# EAGLE library part 691327310008 (library Eagle_WR-TBL Pluggable Connector (rev21a))
WR-TBL Serie 3251 - 3.50 mm Horizontal PCB Header with Flanges KIND PROPERTIES Pitch 3.81 mm MATERIAL PROPERTIES Insulator Material PA66 Insulator Flammability Rating UL94 V-0 Contact Material Brass Contact Plating Tin GENERAL INFORMATION Operating Temperature -40 up to +105 °C Compliance RoHS ELECTRICAL PROPERTIES IR UL 10 A Working Voltage [UL] 300 V (AC) Withstanding Voltage [cULus] 1600 V (AC) Contact Resistance [cULus] 20 mΩ CERTIFICATION cULus Approval E315414 <https://www.we-online.com/catalog/media/o33343v209%20Family_WR-TL_6913273100xx.jpg> Details see: https://www.we-online.com/catalog/en/TBL_3_81_3273_DOUBLE_LEVEL_HORIZONTAL_MALE_PCB_HEADER_W_FLANGES_6913273100XX/ Updated by Ella Wu 2019-12-23 2019(C) Wurth Elektronik
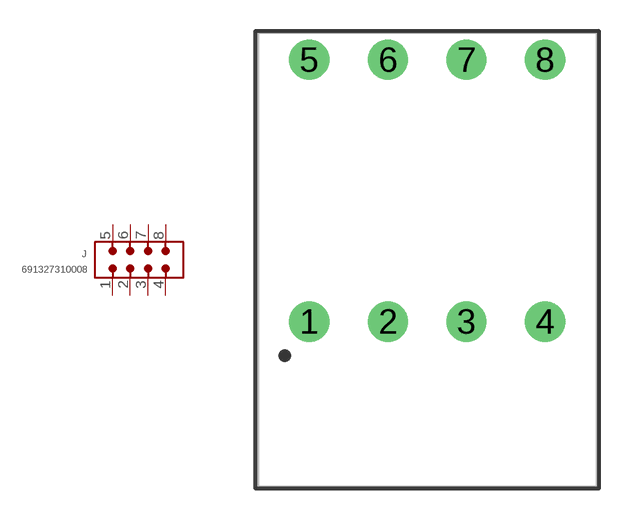
[diagram p14: symbol with the pads of 691327310008; footprint 691327310008]

Designator prefix J

## 691327310008 (DATASHEET-URL: https://www.we-online.com/catalog/datasheet/691327310008.pdf; IR-UL: 10A; MOUNT: THT; PART-NUMBER: 691327310008; PINS: 8; PITCH: 3.81mm; TYPE: Dual Horizontal; VALUE: 691327310008; WORKING-VOLTAGE-UL: 300V (AC))  [691327310008]
1  1  pas
2  2  pas
3  3  pas
4  4  pas
5  5  pas
6  6  pas
7  7  pas
8  8  pas

## Footprint 691327310008 (pad centres in mm)
WR-TBL Serie 3273 - 3.81 mm Double Level Horizontal Male PCB Header with Flanges Max Height = 22.7mm , Pitch 3.81mm , 8pins
drill 1.3: 1 -5.715,-6.35; 2 -1.905,-6.35; 3 1.905,-6.35; 4 5.715,-6.35; 5 -5.715,6.35; 6 -1.905,6.35; 7 1.905,6.35; 8 5.715,6.35